# Altium footprint library WIFI.PcbLib: 1 footprints
Each footprint in its own frame and in the unit in brackets; x right, y up, seen from the top. Pads: shape width x height; smd on the part's side, far side on the other; paste and mask are expansions set on the pad; w line width, h text height; cw(c..) or ccw(c..) is an arc to the next point about the centre after c.
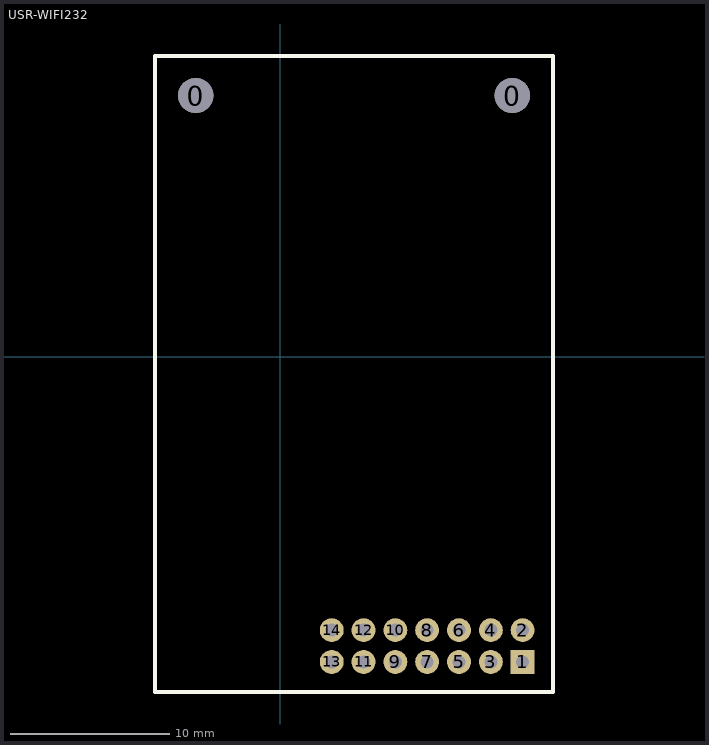
[diagram p0: the footprint, top view; thin cyan lines are the x and y axes]

## USR-WIFI232 [mm]
pads (16):
  round 2.21 hole 2.21: 0(-5.31,16.423) 0(14.59,16.423)
  rect 1.5x1.5 hole 0.813: 1(15.24,-19.177)
  round 1.5 hole 0.813: 2(15.24,-17.177) 3(13.24,-19.177) 4(13.24,-17.177) 5(11.24,-19.177) 6(11.24,-17.177) 7(9.24,-19.177) 8(9.24,-17.177) 9(7.24,-19.177) 10(7.24,-17.177) 11(5.24,-19.177) 12(5.24,-17.177) 13(3.24,-19.177) 14(3.24,-17.177)
Top Overlay:
  lines w0.254: -7.86,-21.077 -7.86,18.923 17.14,18.923 17.14,-21.077 -7.86,-21.077